# Altium schematic symbol library BSH205G2R.Schlib: 1 symbol
Pins are listed as number, name and electrical type; pins without a type are passive.

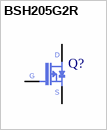
[diagram p0: symbol BSH205G2R]

## BSH205G2R
designator Q?  (value not drawn)
pins: 1 G, 2 S, 3 D